# EAGLE library part LMV358 (library GClue)
LMV358 Low-Voltage Rail-to-Rail Output OpAmp
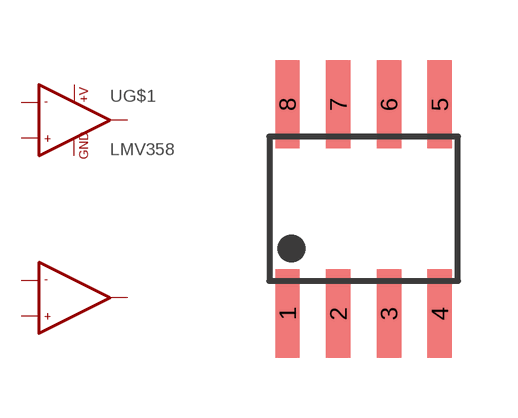
[diagram p12: symbol with the pads of SO8-OP; footprint SO8-OP]

Designator prefix U; gates G$1=OP_AMP1 G$2=OP_AMP2

## LMV358  [SO8-OP]
1  G$1:OUT1  out
2  G$1:-IN1  in
3  G$1:+IN1  in
4  G$1:GND  pwr
5  G$2:+IN2  in
6  G$2:-IN2  in
7  G$2:OUT2  out
8  G$1:+V  pwr

## Footprint SO8-OP (pad centres in mm)
SO8
smd 0.61 x 2.21: 1 -1.905,-2.616; 2 -0.635,-2.616; 3 0.635,-2.616; 4 1.905,-2.616; 5 1.905,2.616; 6 0.635,2.616; 7 -0.635,2.616; 8 -1.905,2.616